# Altium footprint library zigo_pcb1.PcbLib: 11 footprints
Each footprint in its own frame and in the unit in brackets; x right, y up, seen from the top. Pads: shape width x height; smd on the part's side, far side on the other; paste and mask are expansions set on the pad; w line width, h text height; cw(c..) or ccw(c..) is an arc to the next point about the centre after c.
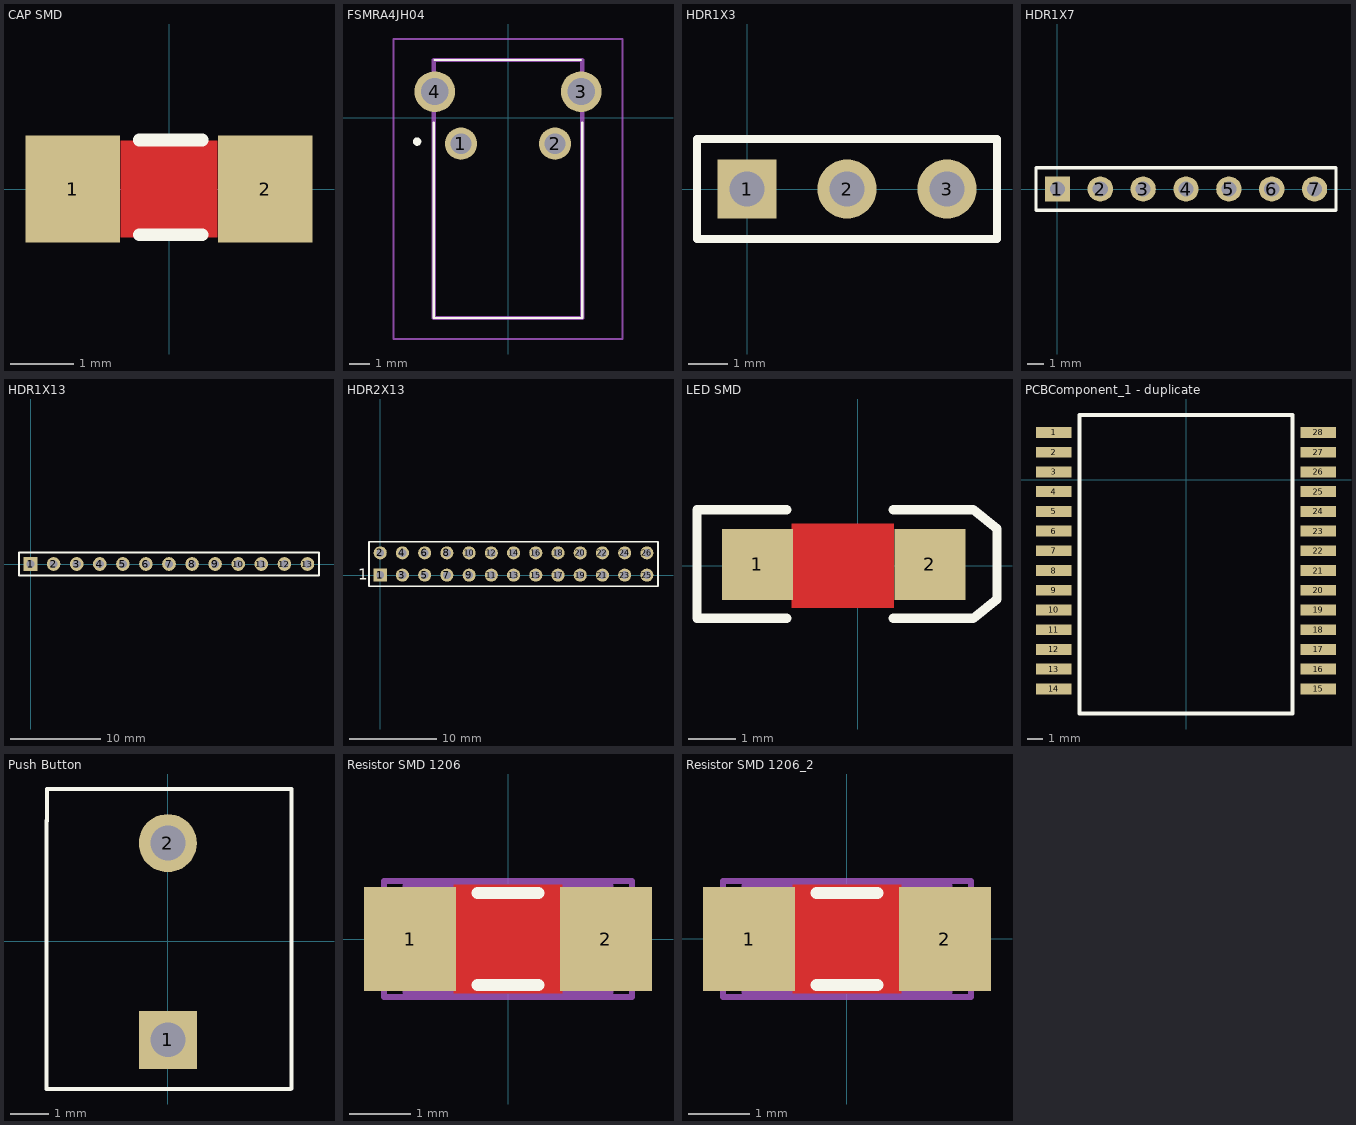
[diagram p0: the footprints below, top view; thin cyan lines are the x and y axes]

## CAP SMD [mm]
pads (2):
  rect 1.5x1.7 smd: 1(-1.525,0) 2(1.525,0)
Top Layer:
  pour cut-out: 0.762,0.762 -0.762,0.762 -0.762,-0.762 0.762,-0.762
Top Overlay:
  lines w0.2: -0.472,-0.725 0.528,-0.725 ; -0.472,0.775 0.528,0.775
3D body "cap 1206.STEP": height 0.75, standoff 0, extent -1.494,-0.762 1.554,0.762

## FSMRA4JH04 [mm]
height 9.6
pads (4):
  round 1.54 hole 0.99: 1(-2.25,-1.245) 2(2.25,-1.245)
  round 1.95 hole 1.3: 3(3.505,1.245) 4(-3.505,1.245)
Top Overlay:
  lines w0.1: -3.555,-0.245 -3.555,-9.595 3.555,-9.595 3.555,-0.245 ; -3.505,2.765 3.5,2.765
  lines w0.2: -4.35,-1.245 ccw(c-4.35,-1.145) -4.35,-1.045 ccw(c-4.35,-1.145) -4.35,-1.245
Mechanical 13:
  lines w0.1: -5.48,-10.595 -5.48,3.765 ; -5.48,-10.595 5.48,-10.595 ; -5.48,-10.595 -5.48,3.765 ; -5.48,-10.595 5.48,-10.595 ; -5.48,3.765 5.48,3.765 ; -5.48,3.765 5.48,3.765 ; 5.48,-10.595 5.48,3.765 ; 5.48,-10.595 5.48,3.765
  lines w0.2: -3.555,-9.595 -3.555,2.765 3.555,2.765 3.555,-9.595 -3.555,-9.595
3D body "step_temp.STEP": height 7.01, standoff -4, extent -4.205,-7 4.205,2.66

## HDR1X3 [mm] "Connector; Header; 3 Position"
pads (3):
  rect 1.5x1.5 hole 0.9: 1(0,0)
  round 1.5 hole 0.9: 2(2.54,0) 3(5.08,0)
Top Overlay:
  lines w0.2: -1.27,-1.27 6.35,-1.27 6.35,1.27 -1.27,1.27 -1.27,-1.27

## HDR1X7 [mm] "Connector; Header; 7 Position"
height 9.6
pads (7):
  rect 1.5x1.5 hole 0.9: 1(0,0)
  round 1.5 hole 0.9: 2(2.54,0) 3(5.08,0) 4(7.62,0) 5(10.16,0) 6(12.7,0) 7(15.24,0)
Top Overlay:
  lines w0.2: -1.27,-1.27 -1.27,1.27 16.51,1.27 16.51,-1.27 -1.27,-1.27

## HDR1X13 [mm] "Connector; Header; 13 Position"
pads (13):
  rect 1.5x1.5 hole 0.9: 1(0,0)
  round 1.5 hole 0.9: 2(2.54,0) 3(5.08,0) 4(7.62,0) 5(10.16,0) 6(12.7,0) 7(15.24,0) 8(17.78,0) 9(20.32,0) 10(22.86,0) 11(25.4,0) 12(27.94,0) 13(30.48,0)
Top Overlay:
  lines w0.2: -1.27,-1.27 31.75,-1.27 31.75,1.27 0.635,1.27 -1.27,1.27 -1.27,-1.27

## HDR2X13 [mm] "Connector; Header; 13x2 Position"
pads (26):
  rect 1.5x1.5 hole 0.9: 1(0,0)
  round 1.5 hole 0.9: 2(0,2.54) 3(2.54,0) 4(2.54,2.54) 5(5.08,0) 6(5.08,2.54) 7(7.62,0) 8(7.62,2.54) 9(10.16,0) 10(10.16,2.54) 11(12.7,0) 12(12.7,2.54) 13(15.24,0) 14(15.24,2.54) 15(17.78,0) 16(17.78,2.54) 17(20.32,0) 18(20.32,2.54) 19(22.86,0) 20(22.86,2.54) 21(25.4,0) 22(25.4,2.54) 23(27.94,0) 24(27.94,2.54) 25(30.48,0) 26(30.48,2.54)
Top Overlay:
  lines w0.2: -1.27,-1.27 -1.27,3.81 31.75,3.81 31.75,-1.27 -1.27,-1.27
  text "1" at -2.54,-0.508 h1.27

## LED SMD [mm]
height 9.6
pads (2):
  rect 1.5x1.5 smd: 1(-2.125,0.025) 2(1.525,0.025)
Top Layer:
  pour cut-out: 0.762,0.889 -1.397,0.889 -1.397,-0.889 0.762,-0.889
Top Overlay:
  lines w0.2: -1.504,-1.118 -3.404,-1.118 -3.404,1.182 -1.504,1.182 ; 0.746,-1.118 2.446,-1.118 2.946,-0.718 2.946,0.782 2.446,1.182 0.746,1.182
Mechanical 1:
  lines w0.1: -0.204,0.007 0.196,0.007 ; -0.204,0.032 0.196,0.032 ; -0.004,-0.193 -0.004,0.207 ; -0.004,-0.168 -0.004,0.232
3D body "SW3dPS-LED_SMD_SML010L_Red.STEP": height 1.36, standoff 0.01, extent -1.925,-0.7 1.375,0.75

## PCBComponent_1 - duplicate [mm]
pads (28):
  rect 2.3x0.7 smd paste+0 mask+0.102: 1(-8.509,3.053) 2(-8.509,1.783) 3(-8.509,0.513) 4(-8.509,-0.757) 5(-8.509,-2.027) 6(-8.509,-3.297) 7(-8.509,-4.567) 8(-8.509,-5.837) 9(-8.509,-7.107) 10(-8.509,-8.377) 11(-8.509,-9.647) 12(-8.509,-10.917) 13(-8.509,-12.187) 14(-8.509,-13.457) 15(8.509,-13.457) 16(8.509,-12.187) 17(8.509,-10.917) 18(8.509,-9.647) 19(8.509,-8.377) 20(8.509,-7.107) 21(8.509,-5.837) 22(8.509,-4.567) 23(8.509,-3.297) 24(8.509,-2.027) 25(8.509,-0.757) 26(8.509,0.513) 27(8.509,1.783) 28(8.509,3.053)
Top Overlay:
  lines w0.254: -6.858,-15.037 6.858,-15.037 6.858,4.191 -6.858,4.191 -6.858,-15.037

## Push Button [mm]
pads (2):
  rect 1.5x1.5 hole 0.9: 1(0,-2.54)
  round 1.5 hole 0.9: 2(0,2.54)
Top Overlay:
  lines w0.1: -3.129,3.125 -3.129,-3.162 -3.129,-3.81 3.175,-3.81 3.189,-3.796 3.189,-3.181 3.189,3.106 3.189,3.937 -3.117,3.937 -3.117,3.106

## Resistor SMD 1206 [mm]
pads (2):
  rect 1.5x1.7 smd: 1(-1.6,0) 2(1.6,0)
Top Layer:
  pour cut-out: 0.889,0.889 -0.889,0.889 -0.889,-0.889 0.889,-0.889
Top Overlay:
  lines w0.2: -0.5,-0.75 0.5,-0.75 ; -0.5,0.75 0.5,0.75
Mechanical 13:
  lines w0.1: -1.675,-0.875 -1.675,0.875 1.675,0.875 1.675,-0.875 -1.675,-0.875
Mechanical 15:
  lines w0.1: -0.5,0 0.5,0 ; 0,-0.5 0,0.5 ; -2.025,-0.95 -2.025,0.95 2.025,0.95 2.025,-0.95 -2.025,-0.95
3D body "User Library-RESC3216X06N.STEP": height 0.55, standoff 0, extent -1.6,-0.8 1.6,0.8

## Resistor SMD 1206_2 [mm]
pads (2):
  rect 1.5x1.7 smd: 1(-1.6,0) 2(1.6,0)
Top Layer:
  pour cut-out: 0.889,0.889 -0.889,0.889 -0.889,-0.889 0.889,-0.889
Top Overlay:
  lines w0.2: -0.5,-0.75 0.5,-0.75 ; -0.5,0.75 0.5,0.75
Mechanical 13:
  lines w0.1: -1.675,-0.875 1.675,-0.875 1.675,0.875 -1.675,0.875 -1.675,-0.875
Mechanical 15:
  lines w0.1: -0.5,0 0.5,0 ; 0,-0.5 0,0.5 ; -2.025,-0.95 2.025,-0.95 2.025,0.95 -2.025,0.95 -2.025,-0.95
3D body "User Library-RESC3216X06N.STEP": height 0.55, standoff 0, extent -1.6,-0.8 1.6,0.8